# Altium footprint library PCB12.PcbLib: 16 footprints
Each footprint in its own frame and in the unit in brackets; x right, y up, seen from the top. Pads: shape width x height; smd on the part's side, far side on the other; paste and mask are expansions set on the pad; w line width, h text height; cw(c..) or ccw(c..) is an arc to the next point about the centre after c.
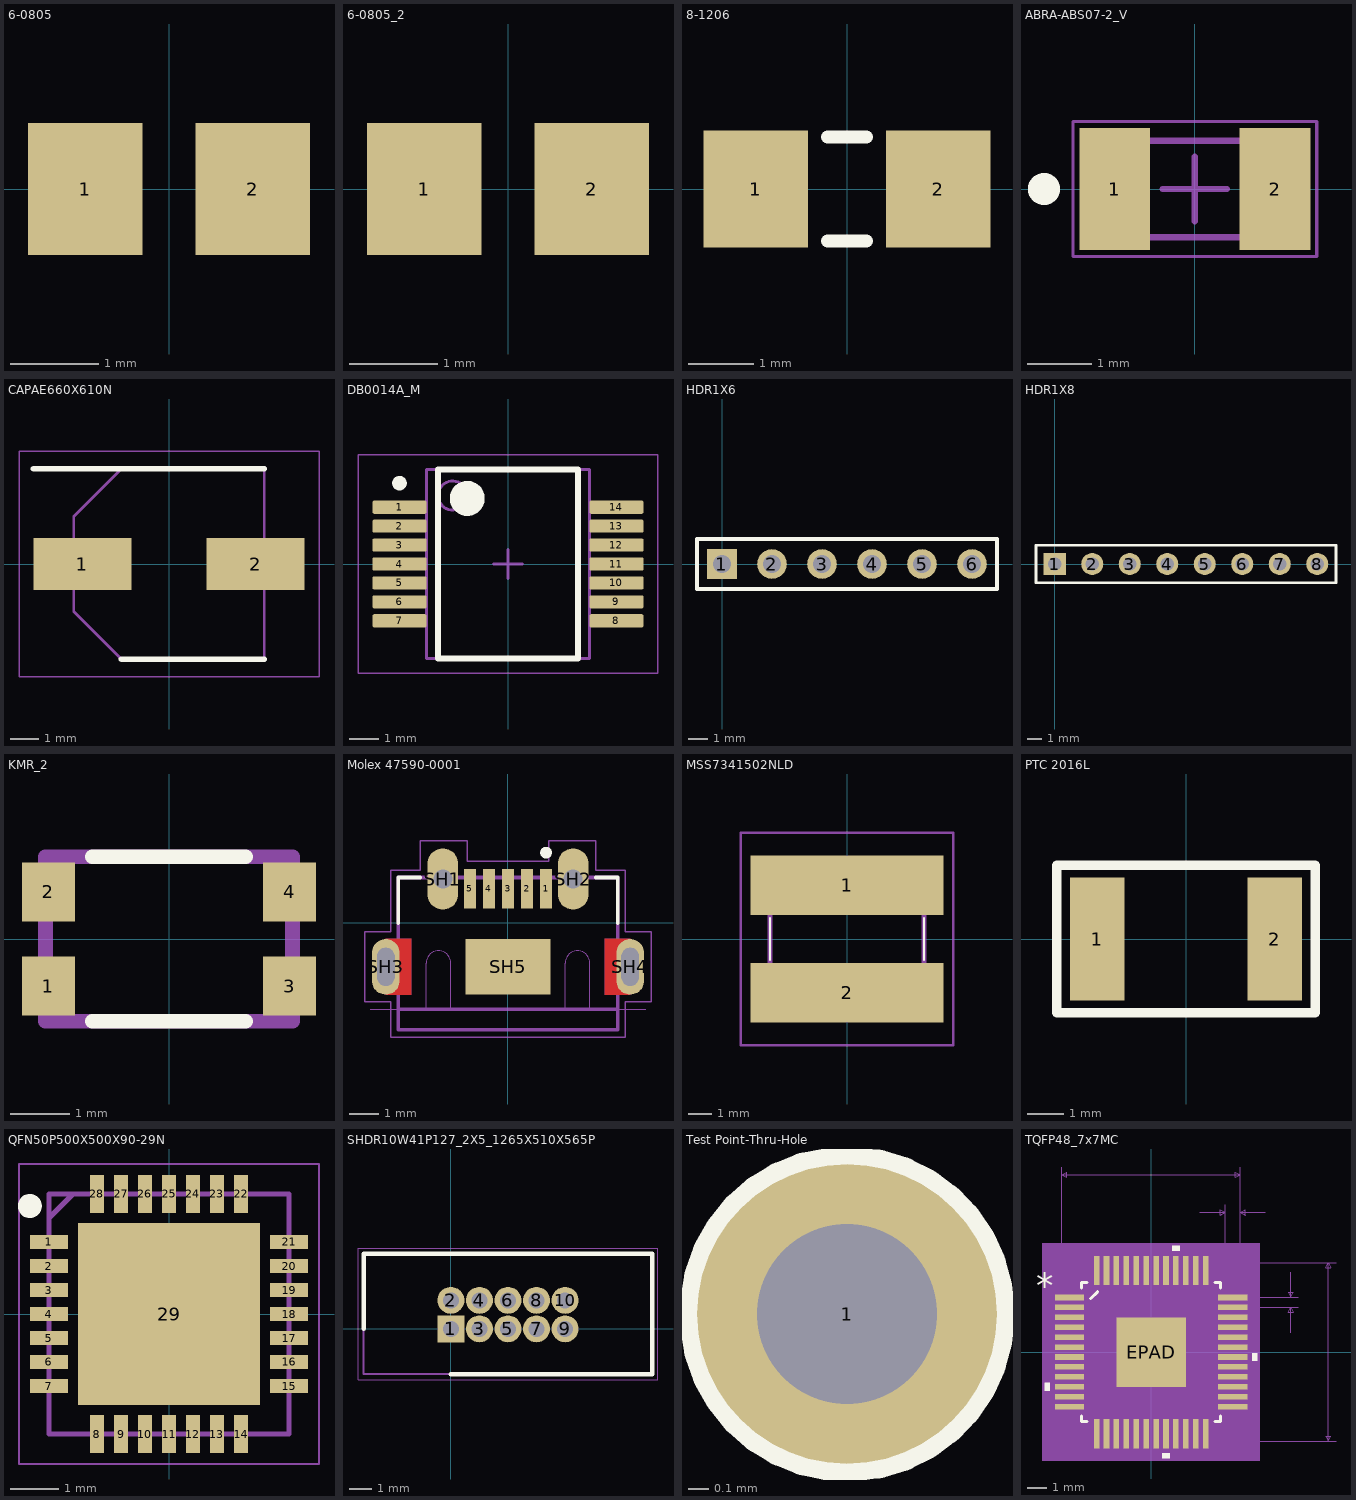
[diagram p0: the footprints below, top view; thin cyan lines are the x and y axes]

## 6-0805 [mm]
pads (2):
  rect 1.3x1.5 smd: 1(-0.95,0) 2(0.95,0)

## 6-0805_2 [mm]
pads (2):
  rect 1.3x1.5 smd: 1(-0.95,0) 2(0.95,0)

## 8-1206 [mm] "Chip Resistor; Body 3.1 x 1.6 mm (LxW typ)"
height 0.7
pads (2):
  rect 1.6x1.8 smd: 1(-1.4,0) 2(1.4,0)
Top Overlay:
  lines w0.2: -0.3,-0.8 0.3,-0.8 ; -0.3,0.8 0.3,0.8

## ABRA-ABS07-2_V [mm] "Hand Drawn, 2-Leads, Body 3.2x1.5mm, Pitch 2.5mm"
height 0.9
pads (2):
  rect 1.1x1.9 smd: 1(-1.25,0) 2(1.25,0)
Top Overlay:
  circle w0.25: c-2.35,0 r0.125
Mechanical 13:
  lines w0.1: -1.6,-0.75 1.6,-0.75 1.6,0.75 -1.6,0.75 -1.6,-0.75
Mechanical 15:
  lines w0.05: -1.9,-1.05 1.9,-1.05 1.9,1.05 -1.9,1.05 -1.9,-1.05
  lines w0.1: -0.5,0 0.5,0 ; 0,-0.5 0,0.5
3D body: height 0.9, standoff 0, extent -1.6,-0.75 1.6,0.75

## CAPAE660X610N [mm]
pads (2):
  rect 3.4x1.8 smd: 1(-3,0) 2(3,0)
Top Overlay:
  lines w0.2: -4.7,3.3 3.3,3.3 ; -1.65,-3.3 3.3,-3.3
Mechanical 13:
  lines w0.1: -3.3,-1.65 -3.3,1.65 -1.65,3.3 3.3,3.3 3.3,-3.3 -1.65,-3.3 -3.3,-1.65
Mechanical 15:
  lines w0.05: -5.2,-3.9 5.2,-3.9 5.2,3.9 -5.2,3.9 -5.2,-3.9
3D body "EEE-FT1V101AP.stp": height 6.1, standoff 0, extent -3.9,-3.4 3.9,3.4

## DB0014A_M [mm] "SOP, 14-Leads, Body 5.6x6.5mm, Pitch 0.65mm, IPC Low Density"
height 2
pads (14):
  rrect22% 1.85x0.45 smd: 1(-3.725,1.95) 2(-3.725,1.3) 3(-3.725,0.65) 4(-3.725,0) 5(-3.725,-0.65) 6(-3.725,-1.3) 7(-3.725,-1.95) 8(3.725,-1.95) 9(3.725,-1.3) 10(3.725,-0.65) 11(3.725,0) 12(3.725,0.65) 13(3.725,1.3) 14(3.725,1.95)
Top Overlay:
  circle w0.25: c-3.725,2.775 r0.125
  circle w0.6: c-1.4,2.25 r0.3
  lines w0.2: -2.4,-3.25 -2.4,3.25 2.4,3.25 2.4,-3.25 -2.4,-3.25
Mechanical 1:
  text ".Designator" at -0.635,0 h1
Mechanical 13:
  circle w0.1: c-1.9,2.35 r0.5
  lines w0.1: -2.8,-3.25 -2.8,3.25 2.8,3.25 2.8,-3.25 -2.8,-3.25
Mechanical 15:
  lines w0.05: -5.15,-3.75 -5.15,3.75 5.15,3.75 5.15,-3.75 -5.15,-3.75
  lines w0.1: -0.5,0 0.5,0 ; 0,-0.5 0,0.5
3D body "DB0014A.stp": height 2, standoff 0, extent -3.905,-3.1 3.906,3.1

## HDR1X6 [mm] "Connector; Header; 6 Position"
pads (6):
  rect 1.5x1.5 hole 0.9: 1(0,0)
  round 1.5 hole 0.9: 2(2.54,0) 3(5.08,0) 4(7.62,0) 5(10.16,0) 6(12.7,0)
Top Overlay:
  lines w0.2: -1.27,-1.27 -1.27,1.27 13.97,1.27 13.97,-1.27 -1.27,-1.27

## HDR1X8 [mm] "Connector; Header; 8 Position"
pads (8):
  rect 1.5x1.5 hole 0.9: 1(0,0)
  round 1.5 hole 0.9: 2(2.54,0) 3(5.08,0) 4(7.62,0) 5(10.16,0) 6(12.7,0) 7(15.24,0) 8(17.78,0)
Top Overlay:
  lines w0.2: -1.27,-1.27 19.05,-1.27 19.05,1.27 -1.27,1.27 -1.27,-1.27

## KMR_2 [mm]
pads (4):
  rect 0.9x1 smd: 1(-2.05,-0.8) 2(-2.05,0.8) 3(2.05,-0.8) 4(2.05,0.8)
Top Overlay:
  lines w0.25: -1.3,-1.4 1.3,-1.4 ; -1.3,1.4 1.3,1.4
Mechanical 13:
  lines w0.25: -2.1,-1.4 2.1,-1.4 2.1,1.4 -2.1,1.4 -2.1,-1.4

## Molex 47590-0001 [mm] "Micro USB AB 5 Pin"
pads (10):
  rect 0.4x1.35 smd: 1(1.3,1.175) 2(0.65,1.175) 3(0,1.175) 4(-0.65,1.175) 5(-1.3,1.175)
  oval 1.05x2.1 hole 0.65 square: SH1(-2.225,1.5) SH2(2.225,1.5)
  oval 0.95x1.9 hole 0.6 slot 1.3 at 90 deg: SH3(-4.175,-1.5) SH4(4.175,-1.5)
  rect 2.9x1.9 smd: SH5(0,-1.5)
Top Layer:
  region: -3.3,-2.451 -4.177,-2.451 -4.177,-0.55 -3.3,-0.55
  region: 4.175,-2.45 3.3,-2.45 3.3,-0.55 4.175,-0.55
Bottom Layer:
  region: -3.3,-2.45 -4.177,-2.45 -4.177,-0.55 -3.3,-0.55
  region: 4.175,-2.451 3.305,-2.451 3.305,-0.55 4.175,-0.55
Top Overlay:
  circle w0.2: c1.3,2.4 r0.1
  lines w0.127: -3.75,0 -3.75,1.55 -3,1.55 ; 3,1.55 3.75,1.55 3.75,0
Top Paste:
  region: -3.3,-2.451 -4.178,-2.451 -4.178,-0.55 -3.3,-0.55
  region: 4.175,-2.452 3.306,-2.452 3.306,-0.55 4.175,-0.55
Bottom Paste:
  region: -3.3,-2.452 -4.183,-2.452 -4.183,-0.55 -3.3,-0.55
  region: 4.175,-2.452 3.305,-2.452 3.305,-0.55 4.175,-0.55
Top Solder:
  region: -3.2,-2.55 -4.175,-2.55 -4.175,-0.45 -3.2,-0.45
  region: 4.175,-2.552 3.205,-2.552 3.205,-0.45 4.175,-0.45
Bottom Solder:
  region: -3.2,-2.552 -4.181,-2.552 -4.181,-0.45 -3.2,-0.45
  region: 4.175,-2.552 3.206,-2.552 3.206,-0.45 4.175,-0.45
Mechanical 1:
  lines w0: -4.7,-2.95 -2.8,-2.95 -2.8,-1.375 cw(c-2.375,-1.375) -1.95,-1.375 -1.95,-2.95 1.95,-2.95 1.95,-1.375 cw(c2.375,-1.375) 2.8,-1.375 2.8,-2.95 4.7,-2.95
Mechanical 13:
  circle w0.2: c1.3,1.25 r0.1
  lines w0.127: 3.683,-2.95 -3.75,-2.95 ; -3.75,-2.95 -3.75,-3.65 3.75,-3.65 3.75,1.55 -3.75,1.55 -3.75,-2.95
Mechanical 15:
  lines w0.05: -4.9,-2.7 -4,-2.7 -4,-3.9 4,-3.9 4,-2.7 4.9,-2.7 4.9,-0.3 4,-0.3 4,1.8 3,1.8 3,2.8 1.4,2.8 1.4,2.1 -1.4,2.1 -1.4,2.8 -3,2.8 -3,1.8 -4,1.8 -4,-0.3 -4.9,-0.3 -4.9,-2.7

## MSS7341502NLD [mm]
pads (2):
  rect 8.255x2.54 smd: 1(0,2.3) 2(0,-2.3)
Top Overlay:
  lines w0.1: -3.3,-0.9 -3.3,0.9 ; 3.3,-0.9 3.3,0.9
Mechanical 13:
  lines w0.2: -3.3,-3.3 3.3,-3.3 3.3,3.3 -3.3,3.3 -3.3,-3.3
Mechanical 15:
  lines w0.1: -4.55,-4.55 4.55,-4.55 4.55,4.55 -4.55,4.55 -4.55,-4.55

## PTC 2016L [mil]
pads (2):
  rect 59x133 smd: 1(-96,0) 2(96,0)
Top Overlay:
  lines w10: -140,-80 -140,10 -140,80 140,80 140,-80 -140,-80

## QFN50P500X500X90-29N [mm]
pads (29):
  rect 0.8x0.3 smd: 1(-2.5,1.5) 2(-2.5,1) 3(-2.5,0.5) 4(-2.5,0) 5(-2.5,-0.5) 6(-2.5,-1) 7(-2.5,-1.5) 15(2.5,-1.5) 16(2.5,-1) 17(2.5,-0.5) 18(2.5,0) 19(2.5,0.5) 20(2.5,1) 21(2.5,1.5)
  rect 0.3x0.8 smd: 8(-1.5,-2.5) 9(-1,-2.5) 10(-0.5,-2.5) 11(0,-2.5) 12(0.5,-2.5) 13(1,-2.5) 14(1.5,-2.5) 22(1.5,2.5) 23(1,2.5) 24(0.5,2.5) 25(0,2.5) 26(-0.5,2.5) 27(-1,2.5) 28(-1.5,2.5)
  rect 3.8x3.8 smd: 29(0,0)
Top Overlay:
  circle w0.25: c-2.9,2.25 r0.125
Mechanical 13:
  lines w0.1: -2.5,2 -2,2.5 ; -2.5,-2.5 2.5,-2.5 2.5,2.5 -2.5,2.5 -2.5,-2.5
Mechanical 15:
  lines w0.05: -3.125,-3.125 3.125,-3.125 3.125,3.125 -3.125,3.125 -3.125,-3.125
3D body "TMC2209-LA-T.stp": height 0.9, standoff 0, extent -2.55,-2.55 2.55,2.55

## SHDR10W41P127_2X5_1265X510X565P [mm]
pads (10):
  rect 1.2x1.2 hole 0.711: 1(0,0)
  round 1.2 hole 0.711: 2(0,1.27) 3(1.27,0) 4(1.27,1.27) 5(2.54,0) 6(2.54,1.27) 7(3.81,0) 8(3.81,1.27) 9(5.08,0) 10(5.08,1.27)
Top Overlay:
  lines w0.2: -3.885,0 -3.885,3.335 8.965,3.335 8.965,-2.015 0,-2.015
Mechanical 13:
  lines w0.1: -3.885,-2.015 8.965,-2.015 8.965,3.335 -3.885,3.335 -3.885,-2.015
Mechanical 15:
  lines w0.05: -4.135,-2.265 9.215,-2.265 9.215,3.585 -4.135,3.585 -4.135,-2.265

## Test Point-Thru-Hole [mm]
pads (1):
  round 1.5 hole 0.9: 1(0,0)
Top Overlay:
  circle w0.254: c0,0 r0.711

## TQFP48_7x7MC [mil]
pads (49):
  rect 58x11 smd: 1(-162,108.27) 2(-162,88.58) 3(-162,68.9) 4(-162,49.21) 5(-162,29.53) 6(-162,9.84) 7(-162,-9.84) 8(-162,-29.53) 9(-162,-49.21) 10(-162,-68.9) 11(-162,-88.58) 12(-162,-108.27) 25(162,-108.27) 26(162,-88.58) 27(162,-68.9) 28(162,-49.21) 29(162,-29.53) 30(162,-9.84) 31(162,9.84) 32(162,29.53) 33(162,49.21) 34(162,68.9) 35(162,88.58) 36(162,108.27)
  rect 11x58 smd: 13(-108.27,-162) 14(-88.58,-162) 15(-68.9,-162) 16(-49.21,-162) 17(-29.53,-162) 18(-9.84,-162) 19(9.84,-162) 20(29.53,-162) 21(49.21,-162) 22(68.9,-162) 23(88.58,-162) 24(108.27,-162) 37(108.27,162) 38(88.58,162) 39(68.9,162) 40(49.21,162) 41(29.53,162) 42(9.84,162) 43(-9.84,162) 44(-29.53,162) 45(-49.21,162) 46(-68.9,162) 47(-88.58,162) 48(-108.27,162)
  rect 138x138 smd paste-68.5 mask+0: EPAD(0,0)
Top Overlay:
  region: 56.71,201 41.71,201 41.71,211 56.71,211
  region: 201,-2.34 211,-2.34 211,-17.34 201,-17.34
  region: 37.03,-201 22.03,-201 22.03,-211 37.03,-211
  region: -201,-61.4 -211,-61.4 -211,-76.4 -201,-76.4
  lines w6: -138,-126.87 -138,-138 -126.87,-138 ; -138,126.87 -138,138 -126.87,138 ; -119.9,106.1 -106.1,119.9 ; 126.87,-138 138,-138 138,-126.87 ; 126.87,138 138,138 138,126.87
  text "*" at -228.5,108.11 h50
Top Paste:
  region: 65.06,-3.94 3.94,-3.94 3.94,-65.06 65.06,-65.06
  region: 65.06,65.06 3.94,65.06 3.94,3.94 65.06,3.94
  region: -3.94,-3.94 -65.06,-3.94 -65.06,-65.06 -3.94,-65.06
  region: -3.94,65.06 -65.06,65.06 -65.06,3.94 -3.94,3.94
Mechanical 5:
  region: 216,-216 -216,-216 -216,216 216,216
Mechanical 7:
  lines w1: -177,108.27 -177,367 ; 97,277 147,277 ; 108.27,-177 367,-177 ; 108.27,177 367,177 ; 147,108.27 147,292 ; 162,88.58 292,88.58 ; 162,108.27 292,108.27 ; 177,292 177,108.27 177,367 ; 227,277 177,277 ; 277,38.58 277,88.58 ; 277,158.27 277,108.27 ; -177,352 -167,347 -167,357 -177,352 ; -177,352 177,352 ; 147,277 137,272 137,282 147,277 ; 177,277 187,272 187,282 177,277 ; 177,352 167,347 167,357 177,352 ; 277,88.58 282,78.58 272,78.58 277,88.58 ; 277,108.27 282,118.27 272,118.27 277,108.27 ; 352,-177 357,-167 347,-167 352,-177 ; 352,-177 352,177 ; 352,177 357,167 347,167 352,177
  text "0.354in/8.992mm" at 372,-12.5 h25
  text "0.354in/8.992mm" at -93.75,372 h25
  text "0.03in/0.762mm" at 74.5,297 h25
  text "1.968504E-02in/0.5mm" at 297,85.93 h25
  text "Alt 2 Padstyle: OX90Y60D30P" at -340.16,-731.16 h50
  text "Alt 1 Padstyle: OX60Y90D30P" at -337.5,-667 h50
  text "Heat Tab Padstyle: RX138Y138D0T" at -387.5,-547 h50
  text "Default Vert Padstyle: RX11Y58D0T" at -412.5,-487 h50
  text "Default Horiz Padstyle: RX11Y58D0T" at -425,-427 h50
Mechanical 13:
  drawing of 197 lines, arcs and shapes, not listed
  text "*" at -228.5,108.11 h50
Mechanical 15:
  region: 201,-201 -201,-201 -201,201 201,201
  lines w6: -201,-201 201,-201 201,201 -201,201 -201,-201
3D body: height 10, standoff 0, extent 0,0 10,10